# Altium integrated library Diodes - TVS.IntLib: 5379 symbols (part 102 of 122)
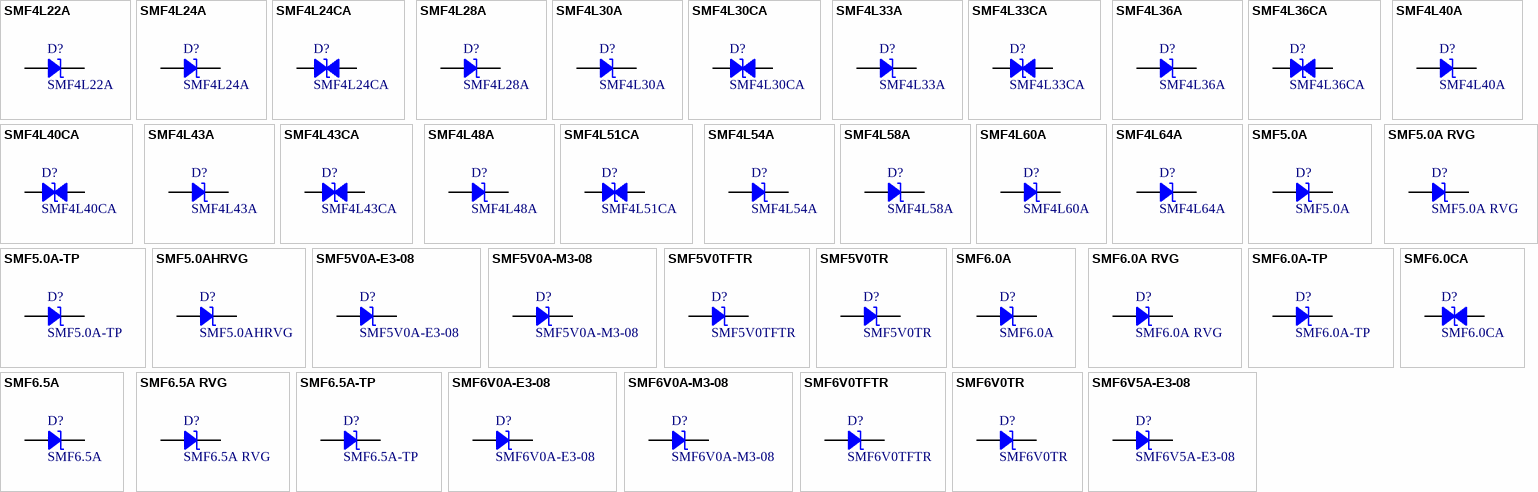
[diagram p235: symbols SMF4L22A to SMF6V5A-E3-08]

## SMF4L24A
designator D?
TVS DIODE 24V 38.9V SOD123FL; Manufacturer: Littelfuse Inc.; Current - Peak Pulse (10/1000µs): 10.3A; Power Line Protection: No; Power - Peak Pulse: 400W; Type: Zener; Unidirectional Channels: 1; Voltage - Breakdown (Min): 26.7V; Part Number: SMF4L24A; Applications: General Purpose; ComponentLink1Description: Datasheet; ComponentLink1URL: https://www.littelfuse.com/~/media/electronics/datasheets/tvs_diodes/littelfuse_tvs_diode_smf4l_datasheet.pdf.pdf; ComponentLink2Description: DigiKey Link; ComponentLink2URL: http://digikey.com/product-detail/en/littelfuse-inc/SMF4L24A/F7481CT-ND/6049738; LastUpdated: 9/2/2020 1:28:37 AM; Lifecycle Status: Active; Minimum Order: 1; Mounting Type: Surface Mount; Operating Temperature: -55°C ~ 150°C (TJ); Package / Case: SOD-123F; Packaging: TapeAndReel; PartId: 10160; Part Status: Active; Price: 0.12; Series: SMF4L; Supplier 1: DigiKey; Supplier Part Number 1: F7481CT-ND; Supplier Device Package: SOD-123FL; Voltage - Clamping (Max) @ Ipp: 38.9V; Voltage - Reverse Standoff (Typ): 24V
footprint SOD123F
pins: 1, 2

## SMF4L24CA
designator D?
TVS DIODE SMF4L 24V BI 400W; Manufacturer: Littelfuse Inc.; Bidirectional Channels: 1; Current - Peak Pulse (10/1000µs): 10.3A; Power Line Protection: No; Type: Zener; Voltage - Breakdown (Min): 26.7V; Voltage - Clamping (Max) @ Ipp: 38.9V; Part Number: SMF4L24CA; Applications: General Purpose; ComponentLink1Description: Datasheet; ComponentLink1URL: https://www.littelfuse.com/~/media/electronics/datasheets/tvs_diodes/littelfuse_tvs_diode_smf4l_datasheet.pdf.pdf; ComponentLink2Description: DigiKey Link; ComponentLink2URL: http://digikey.com/product-detail/en/littelfuse-inc/SMF4L24CA/18-SMF4L24CACT-ND/10710293; LastUpdated: 9/2/2020 1:28:38 AM; Lifecycle Status: Active; Minimum Order: 1; Mounting Type: Surface Mount; Operating Temperature: -55°C ~ 150°C (TJ); Package / Case: SOD-123F; Packaging: Unknown; PartId: 10239; Part Status: Active; Power - Peak Pulse: 400W; Price: 0.12; Series: SMF4L; Supplier 1: DigiKey; Supplier Part Number 1: 18-SMF4L24CACT-ND; Supplier Device Package: SOD-123FL; Voltage - Reverse Standoff (Typ): 24V
footprint SOD123F
pins: 1, 2

## SMF4L28A
designator D?
TVS DIODE 28V 45.4V SOD123FL; Manufacturer: Littelfuse Inc.; Current - Peak Pulse (10/1000µs): 8.8A; Power Line Protection: No; Power - Peak Pulse: 400W; Type: Zener; Unidirectional Channels: 1; Voltage - Breakdown (Min): 31.1V; Part Number: SMF4L28A; Applications: General Purpose; ComponentLink1Description: Datasheet; ComponentLink1URL: https://www.littelfuse.com/~/media/electronics/datasheets/tvs_diodes/littelfuse_tvs_diode_smf4l_datasheet.pdf.pdf; ComponentLink2Description: DigiKey Link; ComponentLink2URL: http://digikey.com/product-detail/en/littelfuse-inc/SMF4L28A/F7483CT-ND/6049740; LastUpdated: 9/2/2020 1:28:37 AM; Lifecycle Status: Active; Minimum Order: 1; Mounting Type: Surface Mount; Operating Temperature: -55°C ~ 150°C (TJ); Package / Case: SOD-123F; Packaging: TapeAndReel; PartId: 10154; Part Status: Active; Price: 0.12; Series: SMF4L; Supplier 1: DigiKey; Supplier Part Number 1: F7483CT-ND; Supplier Device Package: SOD-123FL; Voltage - Clamping (Max) @ Ipp: 45.4V; Voltage - Reverse Standoff (Typ): 28V
footprint SOD123F
pins: 1, 2

## SMF4L30A
designator D?
TVS DIODE 30V 48.4V SOD123FL; Manufacturer: Littelfuse Inc.; Current - Peak Pulse (10/1000µs): 8.3A; Power Line Protection: No; Power - Peak Pulse: 400W; Type: Zener; Unidirectional Channels: 1; Voltage - Breakdown (Min): 33.3V; Part Number: SMF4L30A; Applications: General Purpose; ComponentLink1Description: Datasheet; ComponentLink1URL: https://www.littelfuse.com/~/media/electronics/datasheets/tvs_diodes/littelfuse_tvs_diode_smf4l_datasheet.pdf.pdf; ComponentLink2Description: DigiKey Link; ComponentLink2URL: http://digikey.com/product-detail/en/littelfuse-inc/SMF4L30A/F7469CT-ND/6049726; LastUpdated: 9/2/2020 1:28:37 AM; Lifecycle Status: Active; Minimum Order: 1; Mounting Type: Surface Mount; Operating Temperature: -55°C ~ 150°C (TJ); Package / Case: SOD-123F; Packaging: TapeAndReel; PartId: 10212; Part Status: Active; Price: 0.12; Series: SMF4L; Supplier 1: DigiKey; Supplier Part Number 1: F7469CT-ND; Supplier Device Package: SOD-123FL; Voltage - Clamping (Max) @ Ipp: 48.4V; Voltage - Reverse Standoff (Typ): 30V
footprint SOD123F
pins: 1, 2

## SMF4L30CA
designator D?
TVS DIODE SMF4L 30V BI 400W; Manufacturer: Littelfuse Inc.; Bidirectional Channels: 1; Current - Peak Pulse (10/1000µs): 8.3A; Power Line Protection: No; Type: Zener; Voltage - Breakdown (Min): 33.3V; Voltage - Clamping (Max) @ Ipp: 48.4V; Part Number: SMF4L30CA; Applications: General Purpose; ComponentLink1Description: Datasheet; ComponentLink1URL: https://www.littelfuse.com/~/media/electronics/datasheets/tvs_diodes/littelfuse_tvs_diode_smf4l_datasheet.pdf.pdf; ComponentLink2Description: DigiKey Link; ComponentLink2URL: http://digikey.com/product-detail/en/littelfuse-inc/SMF4L30CA/18-SMF4L30CACT-ND/10710307; LastUpdated: 9/2/2020 1:28:38 AM; Lifecycle Status: Active; Minimum Order: 1; Mounting Type: Surface Mount; Operating Temperature: -55°C ~ 150°C (TJ); Package / Case: SOD-123F; Packaging: Unknown; PartId: 10234; Part Status: Active; Power - Peak Pulse: 400W; Price: 0.12; Series: SMF4L; Supplier 1: DigiKey; Supplier Part Number 1: 18-SMF4L30CACT-ND; Supplier Device Package: SOD-123FL; Voltage - Reverse Standoff (Typ): 30V
footprint SOD123F
pins: 1, 2

## SMF4L33A
designator D?
TVS DIODE 33V 53.3V SOD123FL; Manufacturer: Littelfuse Inc.; Current - Peak Pulse (10/1000µs): 7.5A; Power Line Protection: No; Power - Peak Pulse: 400W; Type: Zener; Unidirectional Channels: 1; Voltage - Breakdown (Min): 36.7V; Part Number: SMF4L33A; Applications: General Purpose; ComponentLink1Description: Datasheet; ComponentLink1URL: https://www.littelfuse.com/~/media/electronics/datasheets/tvs_diodes/littelfuse_tvs_diode_smf4l_datasheet.pdf.pdf; ComponentLink2Description: DigiKey Link; ComponentLink2URL: http://digikey.com/product-detail/en/littelfuse-inc/SMF4L33A/F7484CT-ND/6049741; LastUpdated: 9/2/2020 1:28:37 AM; Lifecycle Status: Active; Minimum Order: 1; Mounting Type: Surface Mount; Operating Temperature: -55°C ~ 150°C (TJ); Package / Case: SOD-123F; Packaging: TapeAndReel; PartId: 10153; Part Status: Active; Price: 0.12; Series: SMF4L; Supplier 1: DigiKey; Supplier Part Number 1: F7484CT-ND; Supplier Device Package: SOD-123FL; Voltage - Clamping (Max) @ Ipp: 53.3V; Voltage - Reverse Standoff (Typ): 33V
footprint SOD123F
pins: 1, 2

## SMF4L33CA
designator D?
TVS DIODE SMF4L 33V BI 400W; Manufacturer: Littelfuse Inc.; Bidirectional Channels: 1; Current - Peak Pulse (10/1000µs): 7.5A; Power Line Protection: No; Type: Zener; Voltage - Breakdown (Min): 36.7V; Voltage - Clamping (Max) @ Ipp: 53.3V; Part Number: SMF4L33CA; Applications: General Purpose; ComponentLink1Description: Datasheet; ComponentLink1URL: https://www.littelfuse.com/~/media/electronics/datasheets/tvs_diodes/littelfuse_tvs_diode_smf4l_datasheet.pdf.pdf; ComponentLink2Description: DigiKey Link; ComponentLink2URL: http://digikey.com/product-detail/en/littelfuse-inc/SMF4L33CA/18-SMF4L33CACT-ND/10710290; LastUpdated: 9/2/2020 1:28:38 AM; Lifecycle Status: Active; Minimum Order: 1; Mounting Type: Surface Mount; Operating Temperature: -55°C ~ 150°C (TJ); Package / Case: SOD-123F; Packaging: Unknown; PartId: 10241; Part Status: Active; Power - Peak Pulse: 400W; Price: 0.12; Series: SMF4L; Supplier 1: DigiKey; Supplier Part Number 1: 18-SMF4L33CACT-ND; Supplier Device Package: SOD-123FL; Voltage - Reverse Standoff (Typ): 33V
footprint SOD123F
pins: 1, 2

## SMF4L36A
designator D?
TVS DIODE 36V 58.1V SOD123FL; Manufacturer: Littelfuse Inc.; Current - Peak Pulse (10/1000µs): 6.9A; Power Line Protection: No; Power - Peak Pulse: 400W; Type: Zener; Unidirectional Channels: 1; Voltage - Breakdown (Min): 40V; Part Number: SMF4L36A; Applications: General Purpose; ComponentLink1Description: Datasheet; ComponentLink1URL: https://www.littelfuse.com/~/media/electronics/datasheets/tvs_diodes/littelfuse_tvs_diode_smf4l_datasheet.pdf.pdf; ComponentLink2Description: DigiKey Link; ComponentLink2URL: http://digikey.com/product-detail/en/littelfuse-inc/SMF4L36A/F7485CT-ND/6049742; LastUpdated: 9/2/2020 1:28:37 AM; Lifecycle Status: Active; Minimum Order: 1; Mounting Type: Surface Mount; Operating Temperature: -55°C ~ 150°C (TJ); Package / Case: SOD-123F; Packaging: TapeAndReel; PartId: 10162; Part Status: Active; Price: 0.12; Series: SMF4L; Supplier 1: DigiKey; Supplier Part Number 1: F7485CT-ND; Supplier Device Package: SOD-123FL; Voltage - Clamping (Max) @ Ipp: 58.1V; Voltage - Reverse Standoff (Typ): 36V
footprint SOD123F
pins: 1, 2

## SMF4L36CA
designator D?
TVS DIODE SMF4L 36V BI 400W; Manufacturer: Littelfuse Inc.; Bidirectional Channels: 1; Current - Peak Pulse (10/1000µs): 6.9A; Power Line Protection: No; Type: SOD-123F; Voltage - Breakdown (Min): 40V; Voltage - Clamping (Max) @ Ipp: 58.1V; Part Number: SMF4L36CA; Applications: General Purpose; ComponentLink1Description: Datasheet; ComponentLink1URL: https://www.littelfuse.com/~/media/electronics/datasheets/tvs_diodes/littelfuse_tvs_diode_smf4l_datasheet.pdf.pdf; ComponentLink2Description: DigiKey Link; ComponentLink2URL: http://digikey.com/product-detail/en/littelfuse-inc/SMF4L36CA/18-SMF4L36CACT-ND/10710300; LastUpdated: 9/2/2020 1:28:38 AM; Lifecycle Status: Active; Minimum Order: 1; Mounting Type: Surface Mount; Operating Temperature: -55°C ~ 150°C (TJ); Package / Case: SOD-123F; Packaging: Unknown; PartId: 10238; Part Status: Active; Power - Peak Pulse: 400W; Price: 0.12; Series: SMF4L; Supplier 1: DigiKey; Supplier Part Number 1: 18-SMF4L36CACT-ND; Supplier Device Package: SOD-123FL; Voltage - Reverse Standoff (Typ): 36V
footprint SOD123F
pins: 1, 2

## SMF4L40A
designator D?
TVS DIODE 40V 64.5V SOD123FL; Manufacturer: Littelfuse Inc.; Current - Peak Pulse (10/1000µs): 6.2A; Power Line Protection: No; Power - Peak Pulse: 400W; Type: Zener; Unidirectional Channels: 1; Voltage - Breakdown (Min): 44.4V; Part Number: SMF4L40A; Applications: General Purpose; ComponentLink1Description: Datasheet; ComponentLink1URL: https://www.littelfuse.com/~/media/electronics/datasheets/tvs_diodes/littelfuse_tvs_diode_smf4l_datasheet.pdf.pdf; ComponentLink2Description: DigiKey Link; ComponentLink2URL: http://digikey.com/product-detail/en/littelfuse-inc/SMF4L40A/F7486CT-ND/6049743; LastUpdated: 9/2/2020 1:28:37 AM; Lifecycle Status: Active; Minimum Order: 1; Mounting Type: Surface Mount; Operating Temperature: -55°C ~ 150°C (TJ); Package / Case: SOD-123F; Packaging: TapeAndReel; PartId: 10215; Part Status: Active; Price: 0.12; Series: SMF4L; Supplier 1: DigiKey; Supplier Part Number 1: F7486CT-ND; Supplier Device Package: SOD-123FL; Voltage - Clamping (Max) @ Ipp: 64.5V; Voltage - Reverse Standoff (Typ): 40V
footprint SOD123F
pins: 1, 2

## SMF4L40CA
designator D?
TVS DIODE SMF4L 40V BI 400W; Manufacturer: Littelfuse Inc.; Bidirectional Channels: 1; Current - Peak Pulse (10/1000µs): 6.2A; Power Line Protection: No; Type: Zener; Voltage - Breakdown (Min): 44.4V; Voltage - Clamping (Max) @ Ipp: 64.5V; Part Number: SMF4L40CA; Applications: General Purpose; ComponentLink1Description: Datasheet; ComponentLink1URL: https://www.littelfuse.com/~/media/electronics/datasheets/tvs_diodes/littelfuse_tvs_diode_smf4l_datasheet.pdf.pdf; ComponentLink2Description: DigiKey Link; ComponentLink2URL: http://digikey.com/product-detail/en/littelfuse-inc/SMF4L40CA/18-SMF4L40CACT-ND/10710302; LastUpdated: 9/2/2020 1:28:38 AM; Lifecycle Status: Active; Minimum Order: 1; Mounting Type: Surface Mount; Operating Temperature: -55°C ~ 150°C (TJ); Package / Case: SOD-123F; Packaging: Unknown; PartId: 10236; Part Status: Active; Power - Peak Pulse: 400W; Price: 0.12; Series: SMF4L; Supplier 1: DigiKey; Supplier Part Number 1: 18-SMF4L40CACT-ND; Supplier Device Package: SOD-123FL; Voltage - Reverse Standoff (Typ): 40V
footprint SOD123F
pins: 1, 2

## SMF4L43A
designator D?
TVS DIODE 43V 69.4V SOD123FL; Manufacturer: Littelfuse Inc.; Current - Peak Pulse (10/1000µs): 5.8A; Power Line Protection: No; Power - Peak Pulse: 400W; Type: Zener; Unidirectional Channels: 1; Voltage - Breakdown (Min): 47.8V; Part Number: SMF4L43A; Applications: General Purpose; ComponentLink1Description: Datasheet; ComponentLink1URL: https://www.littelfuse.com/~/media/electronics/datasheets/tvs_diodes/littelfuse_tvs_diode_smf4l_datasheet.pdf.pdf; ComponentLink2Description: DigiKey Link; ComponentLink2URL: http://digikey.com/product-detail/en/littelfuse-inc/SMF4L43A/F7487CT-ND/6049744; LastUpdated: 9/2/2020 1:28:35 AM; Lifecycle Status: Active; Minimum Order: 1; Mounting Type: Surface Mount; Operating Temperature: -55°C ~ 150°C (TJ); Package / Case: SOD-123F; Packaging: TapeAndReel; PartId: 10035; Part Status: Active; Price: 0.10; Series: SMF4L; Supplier 1: DigiKey; Supplier Part Number 1: F7487CT-ND; Supplier Device Package: SOD-123FL; Voltage - Clamping (Max) @ Ipp: 69.4V; Voltage - Reverse Standoff (Typ): 43V
footprint SOD123F
pins: 1, 2

## SMF4L43CA
designator D?
TVS DIODE SMF4L 43V BI 400W; Manufacturer: Littelfuse Inc.; Bidirectional Channels: 1; Current - Peak Pulse (10/1000µs): 5.8A; Power Line Protection: No; Type: Zener; Voltage - Breakdown (Min): 47.8V; Voltage - Clamping (Max) @ Ipp: 69.4V; Part Number: SMF4L43CA; Applications: General Purpose; ComponentLink1Description: Datasheet; ComponentLink1URL: https://www.littelfuse.com/~/media/electronics/datasheets/tvs_diodes/littelfuse_tvs_diode_smf4l_datasheet.pdf.pdf; ComponentLink2Description: DigiKey Link; ComponentLink2URL: http://digikey.com/product-detail/en/littelfuse-inc/SMF4L43CA/18-SMF4L43CACT-ND/10710308; LastUpdated: 9/2/2020 1:28:38 AM; Lifecycle Status: Active; Minimum Order: 1; Mounting Type: Surface Mount; Operating Temperature: -55°C ~ 150°C (TJ); Package / Case: SOD-123F; Packaging: Unknown; PartId: 10233; Part Status: Active; Power - Peak Pulse: 400W; Price: 0.12; Series: SMF4L; Supplier 1: DigiKey; Supplier Part Number 1: 18-SMF4L43CACT-ND; Supplier Device Package: SOD-123FL; Voltage - Reverse Standoff (Typ): 43V
footprint SOD123F
pins: 1, 2

## SMF4L48A
designator D?
TVS DIODE 48V 77.4V SOD123FL; Manufacturer: Littelfuse Inc.; Current - Peak Pulse (10/1000µs): 5.2A; Power Line Protection: No; Power - Peak Pulse: 400W; Type: Zener; Unidirectional Channels: 1; Voltage - Breakdown (Min): 53.3V; Part Number: SMF4L48A; Applications: General Purpose; ComponentLink1Description: Datasheet; ComponentLink1URL: https://www.littelfuse.com/~/media/electronics/datasheets/tvs_diodes/littelfuse_tvs_diode_smf4l_datasheet.pdf.pdf; ComponentLink2Description: DigiKey Link; ComponentLink2URL: http://digikey.com/product-detail/en/littelfuse-inc/SMF4L48A/F7489CT-ND/6049746; LastUpdated: 9/2/2020 1:28:37 AM; Lifecycle Status: Active; Minimum Order: 1; Mounting Type: Surface Mount; Operating Temperature: -55°C ~ 150°C (TJ); Package / Case: SOD-123F; Packaging: TapeAndReel; PartId: 10157; Part Status: Active; Price: 0.12; Series: SMF4L; Supplier 1: DigiKey; Supplier Part Number 1: F7489CT-ND; Supplier Device Package: SOD-123FL; Voltage - Clamping (Max) @ Ipp: 77.4V; Voltage - Reverse Standoff (Typ): 48V
footprint SOD123F
pins: 1, 2

## SMF4L51CA
designator D?
TVS DIODE SMF4L 51V BI 400W; Manufacturer: Littelfuse Inc.; Bidirectional Channels: 1; Current - Peak Pulse (10/1000µs): 4.9A; Power Line Protection: No; Type: Zener; Voltage - Breakdown (Min): 56.7V; Voltage - Clamping (Max) @ Ipp: 82.4V; Part Number: SMF4L51CA; Applications: General Purpose; ComponentLink1Description: Datasheet; ComponentLink1URL: https://www.littelfuse.com/~/media/electronics/datasheets/tvs_diodes/littelfuse_tvs_diode_smf4l_datasheet.pdf.pdf; ComponentLink2Description: DigiKey Link; ComponentLink2URL: http://digikey.com/product-detail/en/littelfuse-inc/SMF4L51CA/18-SMF4L51CACT-ND/10710301; LastUpdated: 9/2/2020 1:28:38 AM; Lifecycle Status: Active; Minimum Order: 1; Mounting Type: Surface Mount; Operating Temperature: -55°C ~ 150°C (TJ); Package / Case: SOD-123F; Packaging: Unknown; PartId: 10237; Part Status: Active; Power - Peak Pulse: 400W; Price: 0.12; Series: SMF4L; Supplier 1: DigiKey; Supplier Part Number 1: 18-SMF4L51CACT-ND; Supplier Device Package: SOD-123FL; Voltage - Reverse Standoff (Typ): 51V
footprint SOD123F
pins: 1, 2

## SMF4L54A
designator D?
TVS DIODE 54V 87.1V SOD123FL; Manufacturer: Littelfuse Inc.; Current - Peak Pulse (10/1000µs): 4.6A; Power Line Protection: No; Power - Peak Pulse: 400W; Type: Zener; Unidirectional Channels: 1; Voltage - Breakdown (Min): 60V; Part Number: SMF4L54A; Applications: General Purpose; ComponentLink1Description: Datasheet; ComponentLink1URL: https://www.littelfuse.com/~/media/electronics/datasheets/tvs_diodes/littelfuse_tvs_diode_smf4l_datasheet.pdf.pdf; ComponentLink2Description: DigiKey Link; ComponentLink2URL: http://digikey.com/product-detail/en/littelfuse-inc/SMF4L54A/F7491CT-ND/6049748; LastUpdated: 9/2/2020 1:28:37 AM; Lifecycle Status: Active; Minimum Order: 1; Mounting Type: Surface Mount; Operating Temperature: -55°C ~ 150°C (TJ); Package / Case: SOD-123F; Packaging: TapeAndReel; PartId: 10152; Part Status: Active; Price: 0.12; Series: SMF4L; Supplier 1: DigiKey; Supplier Part Number 1: F7491CT-ND; Supplier Device Package: SOD-123FL; Voltage - Clamping (Max) @ Ipp: 87.1V; Voltage - Reverse Standoff (Typ): 54V
footprint SOD123F
pins: 1, 2

## SMF4L58A
designator D?
TVS DIODE 58V 93.6V SOD123FL; Manufacturer: Littelfuse Inc.; Current - Peak Pulse (10/1000µs): 4.3A; Power Line Protection: No; Power - Peak Pulse: 400W; Type: Zener; Unidirectional Channels: 1; Voltage - Breakdown (Min): 64.4V; Part Number: SMF4L58A; Applications: General Purpose; ComponentLink1Description: Datasheet; ComponentLink1URL: https://www.littelfuse.com/~/media/electronics/datasheets/tvs_diodes/littelfuse_tvs_diode_smf4l_datasheet.pdf.pdf; ComponentLink2Description: DigiKey Link; ComponentLink2URL: http://digikey.com/product-detail/en/littelfuse-inc/SMF4L58A/F7492CT-ND/6049749; LastUpdated: 9/2/2020 1:28:37 AM; Lifecycle Status: Active; Minimum Order: 1; Mounting Type: Surface Mount; Operating Temperature: -55°C ~ 150°C (TJ); Package / Case: SOD-123F; Packaging: TapeAndReel; PartId: 10164; Part Status: Active; Price: 0.12; Series: SMF4L; Supplier 1: DigiKey; Supplier Part Number 1: F7492CT-ND; Supplier Device Package: SOD-123FL; Voltage - Clamping (Max) @ Ipp: 93.6V; Voltage - Reverse Standoff (Typ): 58V
footprint SOD123F
pins: 1, 2

## SMF4L60A
designator D?
TVS DIODE 60V 96.8V SOD123FL; Manufacturer: Littelfuse Inc.; Current - Peak Pulse (10/1000µs): 4.1A; Power Line Protection: No; Power - Peak Pulse: 400W; Type: Zener; Unidirectional Channels: 1; Voltage - Breakdown (Min): 66.7V; Part Number: SMF4L60A; Applications: General Purpose; ComponentLink1Description: Datasheet; ComponentLink1URL: https://www.littelfuse.com/~/media/electronics/datasheets/tvs_diodes/littelfuse_tvs_diode_smf4l_datasheet.pdf.pdf; ComponentLink2Description: DigiKey Link; ComponentLink2URL: http://digikey.com/product-detail/en/littelfuse-inc/SMF4L60A/F7493CT-ND/6049750; LastUpdated: 9/2/2020 1:28:37 AM; Lifecycle Status: Active; Minimum Order: 1; Mounting Type: Surface Mount; Operating Temperature: -55°C ~ 150°C (TJ); Package / Case: SOD-123F; Packaging: TapeAndReel; PartId: 10151; Part Status: Active; Price: 0.12; Series: SMF4L; Supplier 1: DigiKey; Supplier Part Number 1: F7493CT-ND; Supplier Device Package: SOD-123FL; Voltage - Clamping (Max) @ Ipp: 96.8V; Voltage - Reverse Standoff (Typ): 60V
footprint SOD123F
pins: 1, 2

## SMF4L64A
designator D?
TVS DIODE 64V 103V SOD123FL; Manufacturer: Littelfuse Inc.; Current - Peak Pulse (10/1000µs): 3.9A; Power Line Protection: No; Power - Peak Pulse: 400W; Type: Zener; Unidirectional Channels: 1; Voltage - Breakdown (Min): 71.1V; Part Number: SMF4L64A; Applications: General Purpose; ComponentLink1Description: Datasheet; ComponentLink1URL: https://www.littelfuse.com/~/media/electronics/datasheets/tvs_diodes/littelfuse_tvs_diode_smf4l_datasheet.pdf.pdf; ComponentLink2Description: DigiKey Link; ComponentLink2URL: http://digikey.com/product-detail/en/littelfuse-inc/SMF4L64A/F7494CT-ND/6049751; LastUpdated: 9/2/2020 1:28:37 AM; Lifecycle Status: Active; Minimum Order: 1; Mounting Type: Surface Mount; Operating Temperature: -55°C ~ 150°C (TJ); Package / Case: SOD-123F; Packaging: TapeAndReel; PartId: 10156; Part Status: Active; Price: 0.12; Series: SMF4L; Supplier 1: DigiKey; Supplier Part Number 1: F7494CT-ND; Supplier Device Package: SOD-123FL; Voltage - Clamping (Max) @ Ipp: 103V; Voltage - Reverse Standoff (Typ): 64V
footprint SOD123F
pins: 1, 2

## SMF5.0A
designator D?
TVS DIODE 5V 9.2V SOD123F; Manufacturer: Littelfuse Inc.; Current - Peak Pulse (10/1000µs): 21.7A; Power Line Protection: No; Power - Peak Pulse: 200W; Type: Zener; Unidirectional Channels: 1; Voltage - Breakdown (Min): 6.4V; Part Number: SMF5.0A; Applications: General Purpose; ComponentLink1Description: Datasheet; ComponentLink1URL: https://www.littelfuse.com/~/media/electronics/datasheets/tvs_diodes/littelfuse_tvs_diode_smf_datasheet.pdf.pdf; ComponentLink2Description: DigiKey Link; ComponentLink2URL: http://digikey.com/product-detail/en/littelfuse-inc/SMF5.0A/F5748CT-ND/3543180; LastUpdated: 9/2/2020 1:28:36 AM; Lifecycle Status: Active; Minimum Order: 1; Mounting Type: Surface Mount; Operating Temperature: -55°C ~ 150°C (TJ); Package / Case: SOD-123F; Packaging: TapeAndReel; PartId: 10096; Part Status: Active; Price: 0.10; Series: SMF; Supplier 1: DigiKey; Supplier Part Number 1: F5748CT-ND; Supplier Device Package: SOD-123F; Voltage - Clamping (Max) @ Ipp: 9.2V; Voltage - Reverse Standoff (Typ): 5V
footprint SOD123F
pins: 1, 2

## SMF5.0A RVG
designator D?
DIODE, TVS, UNIDIRECTIONAL; Manufacturer: Taiwan Semiconductor Corporation; Current - Peak Pulse (10/1000µs): 21.7A; Power Line Protection: No; Power - Peak Pulse: 200W; Type: Zener; Unidirectional Channels: 1; Voltage - Breakdown (Min): 6.4V; Voltage - Clamping (Max) @ Ipp: 9.2V; Voltage - Reverse Standoff (Typ): 5V; Part Number: SMF5.0A RVG; Applications: General Purpose; ComponentLink1Description: Datasheet; ComponentLink1URL: https://www.taiwansemi.com/products/datasheet/SMF5.0A%20SERIES_B1709.pdf; ComponentLink2Description: DigiKey Link; ComponentLink2URL: http://digikey.com/product-detail/en/taiwan-semiconductor-corporation/SMF5.0A-RVG/SMF5.0ARVGCT-ND/8600439; LastUpdated: 9/2/2020 1:28:40 AM; Lifecycle Status: Active; Minimum Order: 1; Mounting Type: Surface Mount; Operating Temperature: -55°C ~ 175°C (TJ); Package / Case: SOD-123W; Packaging: TapeAndReel; PartId: 10313; Part Status: Active; Price: 0.08; Series: -; Supplier 1: DigiKey; Supplier Part Number 1: SMF5.0ARVGCT-ND; Supplier Device Package: SOD-123W
footprint SOD-123W
pins: 1, 2

## SMF5.0A-TP
designator D?
TVS DIODE 5V 9.2V SOD123FL; Manufacturer: Micro Commercial Co; Current - Peak Pulse (10/1000µs): 21.7A; Power Line Protection: No; Power - Peak Pulse: 200W; Type: Zener; Unidirectional Channels: 1; Voltage - Breakdown (Min): 6.4V; Part Number: SMF5.0A-TP; Applications: General Purpose; ComponentLink1Description: Datasheet; ComponentLink1URL: https://www.mccsemi.com/pdf/Products/SMF5.0-170(SOD-123FL)-V2.pdf; ComponentLink2Description: DigiKey Link; ComponentLink2URL: http://digikey.com/product-detail/en/micro-commercial-co/SMF5.0A-TP/SMF5.0A-TPMSCT-ND/2268367; LastUpdated: 9/2/2020 1:28:36 AM; Lifecycle Status: Active; Minimum Order: 1; Mounting Type: Surface Mount; Operating Temperature: -65°C ~ 175°C (TA); Package / Case: SOD-123F; Packaging: TapeAndReel; PartId: 10103; Part Status: Active; Price: 0.09; Series: -; Supplier 1: DigiKey; Supplier Part Number 1: SMF5.0A-TPMSCT-ND; Supplier Device Package: SOD-123FL; Voltage - Clamping (Max) @ Ipp: 9.2V; Voltage - Reverse Standoff (Typ): 5V
footprint SOD123F
pins: 1, 2

## SMF5.0AHRVG
designator D?
DIODE, TVS, UNIDIRECTIONAL; Manufacturer: Taiwan Semiconductor Corporation; Current - Peak Pulse (10/1000µs): 21.7A; Power Line Protection: No; Power - Peak Pulse: 200W; Type: Zener; Unidirectional Channels: 1; Voltage - Breakdown (Min): 6.4V; Voltage - Clamping (Max) @ Ipp: 9.2V; Voltage - Reverse Standoff (Typ): 5V; Part Number: SMF5.0AHRVG; Applications: Automotive; ComponentLink1Description: Datasheet; ComponentLink1URL: https://www.taiwansemi.com/products/datasheet/SMF5.0A%20SERIES_B1709.pdf; ComponentLink2Description: DigiKey Link; ComponentLink2URL: http://digikey.com/product-detail/en/taiwan-semiconductor-corporation/SMF5.0AHRVG/SMF5.0AHRVGCT-ND/8600440; LastUpdated: 9/2/2020 1:28:40 AM; Lifecycle Status: Active; Minimum Order: 1; Mounting Type: Surface Mount; Operating Temperature: -55°C ~ 175°C (TJ); Package / Case: SOD-123W; Packaging: TapeAndReel; PartId: 10294; Part Status: Active; Price: 0.09; Series: Automotive, AEC-Q101; Supplier 1: DigiKey; Supplier Part Number 1: SMF5.0AHRVGCT-ND; Supplier Device Package: SOD-123W
footprint SOD-123W
pins: 1, 2

## SMF5V0A-E3-08
designator D?
TVS DIODE 5V 9.2V SMF; Manufacturer: Vishay Semiconductor Diodes Division; Capacitance @ Frequency: 1120pF @ 1MHz; Current - Peak Pulse (10/1000µs): 21.7A; Power Line Protection: No; Power - Peak Pulse: 200W; Type: Zener; Unidirectional Channels: 1; Voltage - Breakdown (Min): 6.4V; Part Number: SMF5V0A-E3-08; Applications: General Purpose; ComponentLink1Description: Datasheet; ComponentLink1URL: http://www.vishay.com/docs/85881/smf5v0atosmf58a.pdf; ComponentLink2Description: DigiKey Link; ComponentLink2URL: http://digikey.com/product-detail/en/vishay-semiconductor-diodes-division/SMF5V0A-E3-08/SMF5V0A-E3-08CT-ND/1680637; LastUpdated: 9/2/2020 1:27:45 AM; Lifecycle Status: Active; Minimum Order: 1; Mounting Type: Surface Mount; Operating Temperature: -65°C ~ 175°C (TJ); Package / Case: DO-219AB; Packaging: TapeAndReel; PartId: 5504; Part Status: Active; Price: 0.10; Series: -; Supplier 1: DigiKey; Supplier Part Number 1: SMF5V0A-E3-08CT-ND; Supplier Device Package: SMF; Voltage - Clamping (Max) @ Ipp: 9.2V; Voltage - Reverse Standoff (Typ): 5V
footprint SMF DO-219AB
pins: 1, 2

## SMF5V0A-M3-08
designator D?
TVS DIODE 5V 9.2V DO219AB; Manufacturer: Vishay Semiconductor Diodes Division; Capacitance @ Frequency: 1120pF @ 1MHz; Current - Peak Pulse (10/1000µs): 21.7A; Power Line Protection: No; Power - Peak Pulse: 200W; Type: Zener; Unidirectional Channels: 1; Voltage - Breakdown (Min): 6.4V; Part Number: SMF5V0A-M3-08; Applications: General Purpose; ComponentLink1Description: Datasheet; ComponentLink1URL: http://www.vishay.com/docs/85881/smf5v0atosmf58a.pdf; ComponentLink2Description: DigiKey Link; ComponentLink2URL: http://digikey.com/product-detail/en/vishay-semiconductor-diodes-division/SMF5V0A-M3-08/SMF5V0A-M3-08GICT-ND/8565232; LastUpdated: 9/2/2020 1:27:45 AM; Lifecycle Status: Active; Minimum Order: 1; Mounting Type: Surface Mount; Operating Temperature: -65°C ~ 175°C (TJ); Package / Case: DO-219AB; Packaging: TapeAndReel; PartId: 5524; Part Status: Active; Price: 0.10; Series: -; Supplier 1: DigiKey; Supplier Part Number 1: SMF5V0A-M3-08GICT-ND; Supplier Device Package: SMF (DO-219AB); Voltage - Clamping (Max) @ Ipp: 9.2V; Voltage - Reverse Standoff (Typ): 5V
footprint SMF DO-219AB
pins: 1, 2

## SMF5V0TFTR
designator D?
SMF5V0TF IS A TRANSIENT VOLTAGE; Manufacturer: Rohm Semiconductor; Current - Peak Pulse (10/1000µs): 21.7A; Power Line Protection: No; Power - Peak Pulse: 200W; Type: Zener; Unidirectional Channels: 1; Voltage - Breakdown (Min): 6.4V; Voltage - Clamping (Max) @ Ipp: 9.2V; Voltage - Reverse Standoff (Typ): 5V; Part Number: SMF5V0TFTR; Applications: Automotive; ComponentLink1Description: Datasheet; ComponentLink1URL: https://www.rohm.com/datasheet/SMF5V0TF/smf5v0tftr-e; ComponentLink2Description: DigiKey Link; ComponentLink2URL: http://digikey.com/product-detail/en/rohm-semiconductor/SMF5V0TFTR/SMF5V0TFCT-ND/9748293; LastUpdated: 9/2/2020 1:28:36 AM; Lifecycle Status: Active; Minimum Order: 1; Mounting Type: Surface Mount; Operating Temperature: 150°C (TJ); Package / Case: SOD-123F; Packaging: TapeAndReel; PartId: 10125; Part Status: Active; Price: 0.11; Series: Automotive, AEC-Q101; Supplier 1: DigiKey; Supplier Part Number 1: SMF5V0TFCT-ND; Supplier Device Package: PMDU
footprint SOD123F
pins: 1, 2

## SMF5V0TR
designator D?
TRANSIENT VOLTAGE SUPPRESSOR - S; Manufacturer: Rohm Semiconductor; Current - Peak Pulse (10/1000µs): 21.7A; Power Line Protection: No; Power - Peak Pulse: 200W; Type: Zener; Unidirectional Channels: 1; Voltage - Breakdown (Min): 6.4V; Voltage - Clamping (Max) @ Ipp: 9.2V; Voltage - Reverse Standoff (Typ): 5V (Max); Part Number: SMF5V0TR; Applications: General Purpose; ComponentLink1Description: Datasheet; ComponentLink1URL: https://www.rohm.com/datasheet/SMF7V5/smf7v5tr-e; ComponentLink2Description: DigiKey Link; ComponentLink2URL: http://digikey.com/product-detail/en/rohm-semiconductor/SMF5V0TR/846-SMF5V0CT-ND/10709695; LastUpdated: 9/2/2020 1:28:36 AM; Lifecycle Status: Active; Minimum Order: 1; Mounting Type: Surface Mount; Operating Temperature: 150°C (TJ); Package / Case: SOD-123F; Packaging: Unknown; PartId: 10045; Part Status: Active; Price: 0.06; Series: -; Supplier 1: DigiKey; Supplier Part Number 1: 846-SMF5V0CT-ND; Supplier Device Package: PMDU
footprint SOD123F
pins: 1, 2

## SMF6.0A
designator D?
TVS DIODE 6V 10.3V SOD123F; Manufacturer: Littelfuse Inc.; Current - Peak Pulse (10/1000µs): 19.4A; Power Line Protection: No; Power - Peak Pulse: 200W; Type: Zener; Unidirectional Channels: 1; Voltage - Breakdown (Min): 6.67V; Part Number: SMF6.0A; Applications: General Purpose; ComponentLink1Description: Datasheet; ComponentLink1URL: https://www.littelfuse.com/~/media/electronics/datasheets/tvs_diodes/littelfuse_tvs_diode_smf_datasheet.pdf.pdf; ComponentLink2Description: DigiKey Link; ComponentLink2URL: http://digikey.com/product-detail/en/littelfuse-inc/SMF6.0A/F5749CT-ND/3543181; LastUpdated: 9/2/2020 1:28:37 AM; Lifecycle Status: Active; Minimum Order: 1; Mounting Type: Surface Mount; Operating Temperature: -55°C ~ 150°C (TJ); Package / Case: SOD-123F; Packaging: TapeAndReel; PartId: 10224; Part Status: Active; Price: 0.10; Series: SMF; Supplier 1: DigiKey; Supplier Part Number 1: F5749CT-ND; Supplier Device Package: SOD-123F; Voltage - Clamping (Max) @ Ipp: 10.3V; Voltage - Reverse Standoff (Typ): 6V
footprint SOD123F
pins: 1, 2

## SMF6.0A RVG
designator D?
DIODE, TVS, UNIDIRECTIONAL; Manufacturer: Taiwan Semiconductor Corporation; Current - Peak Pulse (10/1000µs): 19.4A; Power Line Protection: No; Power - Peak Pulse: 200W; Type: Zener; Unidirectional Channels: 1; Voltage - Breakdown (Min): 6.67V; Voltage - Clamping (Max) @ Ipp: 10.3V; Voltage - Reverse Standoff (Typ): 6V; Part Number: SMF6.0A RVG; Applications: General Purpose; ComponentLink1Description: Datasheet; ComponentLink1URL: https://www.taiwansemi.com/products/datasheet/SMF5.0A%20SERIES_B1709.pdf; ComponentLink2Description: DigiKey Link; ComponentLink2URL: http://digikey.com/product-detail/en/taiwan-semiconductor-corporation/SMF6.0A-RVG/SMF6.0ARVGCT-ND/8600441; LastUpdated: 9/2/2020 1:28:40 AM; Lifecycle Status: Active; Minimum Order: 1; Mounting Type: Surface Mount; Operating Temperature: -55°C ~ 175°C (TJ); Package / Case: SOD-123W; Packaging: TapeAndReel; PartId: 10340; Part Status: Active; Price: 0.08; Series: -; Supplier 1: DigiKey; Supplier Part Number 1: SMF6.0ARVGCT-ND; Supplier Device Package: SOD-123W
footprint SOD-123W
pins: 1, 2

## SMF6.0A-TP
designator D?
TVS DIODE 6V 10.3V SOD123FL; Manufacturer: Micro Commercial Co; Current - Peak Pulse (10/1000µs): 19.4A; Power Line Protection: No; Power - Peak Pulse: 200W; Type: Zener; Unidirectional Channels: 1; Voltage - Breakdown (Min): 6.67V; Part Number: SMF6.0A-TP; Applications: General Purpose; ComponentLink1Description: Datasheet; ComponentLink1URL: https://www.mccsemi.com/pdf/Products/SMF5.0-170(SOD-123FL)-V2.pdf; ComponentLink2Description: DigiKey Link; ComponentLink2URL: http://digikey.com/product-detail/en/micro-commercial-co/SMF6.0A-TP/SMF6.0A-TPMSCT-ND/5114028; LastUpdated: 9/2/2020 1:28:36 AM; Lifecycle Status: Active; Minimum Order: 1; Mounting Type: Surface Mount; Operating Temperature: -65°C ~ 175°C (TA); Package / Case: SOD-123F; Packaging: TapeAndReel; PartId: 10074; Part Status: Active; Price: 0.09; Series: -; Supplier 1: DigiKey; Supplier Part Number 1: SMF6.0A-TPMSCT-ND; Supplier Device Package: SOD-123FL; Voltage - Clamping (Max) @ Ipp: 10.3V; Voltage - Reverse Standoff (Typ): 6V
footprint SOD123F
pins: 1, 2

## SMF6.0CA
designator D?
TVS DIODE 200W BI 6V SMD; Manufacturer: Littelfuse Inc.; Bidirectional Channels: 1; Current - Peak Pulse (10/1000µs): 19.4A; Power Line Protection: No; Type: Zener; Voltage - Breakdown (Min): 6.67V; Voltage - Clamping (Max) @ Ipp: 10.3V; Part Number: SMF6.0CA; Applications: General Purpose; ComponentLink1Description: Datasheet; ComponentLink1URL: https://www.littelfuse.com/~/media/electronics/datasheets/tvs_diodes/littelfuse_tvs_diode_smf_datasheet.pdf.pdf; ComponentLink2Description: DigiKey Link; ComponentLink2URL: http://digikey.com/product-detail/en/littelfuse-inc/SMF6.0CA/18-SMF6.0CACT-ND/11206251; LastUpdated: 9/2/2020 1:28:38 AM; Lifecycle Status: Active; Minimum Order: 1; Mounting Type: Surface Mount; Operating Temperature: -65°C ~ 150°C (TJ); Package / Case: SOD-123F; Packaging: Unknown; PartId: 10228; Part Status: Active; Power - Peak Pulse: 200W; Price: 0.12; Series: SMF; Supplier 1: DigiKey; Supplier Part Number 1: 18-SMF6.0CACT-ND; Supplier Device Package: SOD-123FL; Voltage - Reverse Standoff (Typ): 6V
footprint SOD123F
pins: 1, 2

## SMF6.5A
designator D?
TVS DIODE 6.5V 11.2V SOD123F; Manufacturer: Littelfuse Inc.; Current - Peak Pulse (10/1000µs): 17.9A; Power Line Protection: No; Power - Peak Pulse: 200W; Type: Zener; Unidirectional Channels: 1; Voltage - Breakdown (Min): 7.22V; Part Number: SMF6.5A; Applications: General Purpose; ComponentLink1Description: Datasheet; ComponentLink1URL: https://www.littelfuse.com/~/media/electronics/datasheets/tvs_diodes/littelfuse_tvs_diode_smf_datasheet.pdf.pdf; ComponentLink2Description: DigiKey Link; ComponentLink2URL: http://digikey.com/product-detail/en/littelfuse-inc/SMF6.5A/F5750CT-ND/3543182; LastUpdated: 9/2/2020 1:28:37 AM; Lifecycle Status: Active; Minimum Order: 1; Mounting Type: Surface Mount; Operating Temperature: -55°C ~ 150°C (TJ); Package / Case: SOD-123F; Packaging: TapeAndReel; PartId: 10203; Part Status: Active; Price: 0.11; Series: SMF; Supplier 1: DigiKey; Supplier Part Number 1: F5750CT-ND; Supplier Device Package: SOD-123F; Voltage - Clamping (Max) @ Ipp: 11.2V; Voltage - Reverse Standoff (Typ): 6.5V
footprint SOD123F
pins: 1, 2

## SMF6.5A RVG
designator D?
DIODE, TVS, UNIDIRECTIONAL; Manufacturer: Taiwan Semiconductor Corporation; Current - Peak Pulse (10/1000µs): 17.9A; Power Line Protection: No; Power - Peak Pulse: 200W; Type: Zener; Unidirectional Channels: 1; Voltage - Breakdown (Min): 7.22V; Voltage - Clamping (Max) @ Ipp: 11.2V; Voltage - Reverse Standoff (Typ): 6.5V; Part Number: SMF6.5A RVG; Applications: General Purpose; ComponentLink1Description: Datasheet; ComponentLink1URL: https://www.taiwansemi.com/products/datasheet/SMF5.0A%20SERIES_B1709.pdf; ComponentLink2Description: DigiKey Link; ComponentLink2URL: http://digikey.com/product-detail/en/taiwan-semiconductor-corporation/SMF6.5A-RVG/SMF6.5ARVGCT-ND/8600442; LastUpdated: 9/2/2020 1:28:40 AM; Lifecycle Status: Active; Minimum Order: 1; Mounting Type: Surface Mount; Operating Temperature: -55°C ~ 175°C (TJ); Package / Case: SOD-123W; Packaging: TapeAndReel; PartId: 10312; Part Status: Active; Price: 0.08; Series: -; Supplier 1: DigiKey; Supplier Part Number 1: SMF6.5ARVGCT-ND; Supplier Device Package: SOD-123W
footprint SOD-123W
pins: 1, 2

## SMF6.5A-TP
designator D?
TVS DIODE 6.5V 11.2V SOD123FL; Manufacturer: Micro Commercial Co; Current - Peak Pulse (10/1000µs): 17.9A; Power Line Protection: No; Power - Peak Pulse: 200W; Type: Zener; Unidirectional Channels: 1; Voltage - Breakdown (Min): 7.22V; Part Number: SMF6.5A-TP; Applications: General Purpose; ComponentLink1Description: Datasheet; ComponentLink1URL: https://www.mccsemi.com/pdf/Products/SMF5.0-170(SOD-123FL)-F.pdf; ComponentLink2Description: DigiKey Link; ComponentLink2URL: http://digikey.com/product-detail/en/micro-commercial-co/SMF6.5A-TP/SMF6.5A-TPMSCT-ND/5114029; LastUpdated: 9/2/2020 1:28:36 AM; Lifecycle Status: Active; Minimum Order: 1; Mounting Type: Surface Mount; Operating Temperature: -65°C ~ 175°C (TA); Package / Case: SOD-123F; Packaging: TapeAndReel; PartId: 10110; Part Status: Active; Price: 0.09; Series: -; Supplier 1: DigiKey; Supplier Part Number 1: SMF6.5A-TPMSCT-ND; Supplier Device Package: SOD-123FL; Voltage - Clamping (Max) @ Ipp: 11.2V; Voltage - Reverse Standoff (Typ): 6.5V
footprint SOD123F
pins: 1, 2

## SMF6V0A-E3-08
designator D?
TVS DIODE 6V 10.3V SMF; Manufacturer: Vishay Semiconductor Diodes Division; Capacitance @ Frequency: 1063pF @ 1MHz; Current - Peak Pulse (10/1000µs): 19.4A; Power Line Protection: No; Power - Peak Pulse: 200W; Type: Zener; Unidirectional Channels: 1; Voltage - Breakdown (Min): 6.67V; Part Number: SMF6V0A-E3-08; Applications: General Purpose; ComponentLink1Description: Datasheet; ComponentLink1URL: http://www.vishay.com/docs/85881/smf5v0atosmf58a.pdf; ComponentLink2Description: DigiKey Link; ComponentLink2URL: http://digikey.com/product-detail/en/vishay-semiconductor-diodes-division/SMF6V0A-E3-08/SMF6V0A-E3-08CT-ND/3305300; LastUpdated: 9/2/2020 1:27:46 AM; Lifecycle Status: Active; Minimum Order: 1; Mounting Type: Surface Mount; Operating Temperature: -65°C ~ 175°C (TJ); Package / Case: DO-219AB; Packaging: TapeAndReel; PartId: 5542; Part Status: Active; Price: 0.10; Series: -; Supplier 1: DigiKey; Supplier Part Number 1: SMF6V0A-E3-08CT-ND; Supplier Device Package: SMF; Voltage - Clamping (Max) @ Ipp: 10.3V; Voltage - Reverse Standoff (Typ): 6V
footprint SMF DO-219AB
pins: 1, 2

## SMF6V0A-M3-08
designator D?
TVS DIODE 6V 10.3V DO219AB; Manufacturer: Vishay Semiconductor Diodes Division; Capacitance @ Frequency: 1063pF @ 1MHz; Current - Peak Pulse (10/1000µs): 19.4A; Power Line Protection: No; Power - Peak Pulse: 200W; Type: Zener; Unidirectional Channels: 1; Voltage - Breakdown (Min): 6.67V; Part Number: SMF6V0A-M3-08; Applications: General Purpose; ComponentLink1Description: Datasheet; ComponentLink1URL: http://www.vishay.com/docs/85881/smf5v0atosmf58a.pdf; ComponentLink2Description: DigiKey Link; ComponentLink2URL: http://digikey.com/product-detail/en/vishay-semiconductor-diodes-division/SMF6V0A-M3-08/SMF6V0A-M3-08GICT-ND/8565233; LastUpdated: 9/2/2020 1:27:45 AM; Lifecycle Status: Active; Minimum Order: 1; Mounting Type: Surface Mount; Operating Temperature: -65°C ~ 175°C (TJ); Package / Case: DO-219AB; Packaging: TapeAndReel; PartId: 5523; Part Status: Active; Price: 0.10; Series: -; Supplier 1: DigiKey; Supplier Part Number 1: SMF6V0A-M3-08GICT-ND; Supplier Device Package: SMF (DO-219AB); Voltage - Clamping (Max) @ Ipp: 10.3V; Voltage - Reverse Standoff (Typ): 6V
footprint SMF DO-219AB
pins: 1, 2

## SMF6V0TFTR
designator D?
SMF6V0TF IS A TRANSIENT VOLTAGE; Manufacturer: Rohm Semiconductor; Current - Peak Pulse (10/1000µs): 19.4A; Power Line Protection: No; Power - Peak Pulse: 200W; Type: Zener; Unidirectional Channels: 1; Voltage - Breakdown (Min): 6.67V; Voltage - Clamping (Max) @ Ipp: 10.3V; Voltage - Reverse Standoff (Typ): 6V; Part Number: SMF6V0TFTR; Applications: Automotive; ComponentLink1Description: Datasheet; ComponentLink1URL: https://www.rohm.com/datasheet/SMF6V0TF/smf6v0tftr-e; ComponentLink2Description: DigiKey Link; ComponentLink2URL: http://digikey.com/product-detail/en/rohm-semiconductor/SMF6V0TFTR/SMF6V0TFCT-ND/9748294; LastUpdated: 9/2/2020 1:28:36 AM; Lifecycle Status: Active; Minimum Order: 1; Mounting Type: Surface Mount; Operating Temperature: 150°C (TJ); Package / Case: SOD-123F; Packaging: TapeAndReel; PartId: 10123; Part Status: Active; Price: 0.11; Series: Automotive, AEC-Q101; Supplier 1: DigiKey; Supplier Part Number 1: SMF6V0TFCT-ND; Supplier Device Package: PMDU
footprint SOD123F
pins: 1, 2

## SMF6V0TR
designator D?
TRANSIENT VOLTAGE SUPPRESSOR - S; Manufacturer: Rohm Semiconductor; Current - Peak Pulse (10/1000µs): 19.4A; Power Line Protection: No; Power - Peak Pulse: 200W; Type: Zener; Unidirectional Channels: 1; Voltage - Breakdown (Min): 6.67V; Voltage - Clamping (Max) @ Ipp: 10.3V; Voltage - Reverse Standoff (Typ): 6V (Max); Part Number: SMF6V0TR; Applications: General Purpose; ComponentLink1Description: Datasheet; ComponentLink1URL: https://www.rohm.com/datasheet/SMF8V0/smf8v0tr-e; ComponentLink2Description: DigiKey Link; ComponentLink2URL: http://digikey.com/product-detail/en/rohm-semiconductor/SMF6V0TR/846-SMF6V0CT-ND/10709693; LastUpdated: 9/2/2020 1:28:36 AM; Lifecycle Status: Active; Minimum Order: 1; Mounting Type: Surface Mount; Operating Temperature: 150°C (TJ); Package / Case: SOD-123F; Packaging: Unknown; PartId: 10046; Part Status: Active; Price: 0.06; Series: -; Supplier 1: DigiKey; Supplier Part Number 1: 846-SMF6V0CT-ND; Supplier Device Package: PMDU
footprint SOD123F
pins: 1, 2

## SMF6V5A-E3-08
designator D?
TVS DIODE 6.5V 11.2V SMF; Manufacturer: Vishay Semiconductor Diodes Division; Capacitance @ Frequency: 938pF @ 1MHz; Current - Peak Pulse (10/1000µs): 17.9A; Power Line Protection: No; Power - Peak Pulse: 200W; Type: Zener; Unidirectional Channels: 1; Voltage - Breakdown (Min): 7.22V; Part Number: SMF6V5A-E3-08; Applications: General Purpose; ComponentLink1Description: Datasheet; ComponentLink1URL: http://www.vishay.com/docs/85881/smf5v0atosmf58a.pdf; ComponentLink2Description: DigiKey Link; ComponentLink2URL: http://digikey.com/product-detail/en/vishay-semiconductor-diodes-division/SMF6V5A-E3-08/SMF6V5A-E3-08CT-ND/1680638; LastUpdated: 9/2/2020 1:27:45 AM; Lifecycle Status: Active; Minimum Order: 1; Mounting Type: Surface Mount; Operating Temperature: -65°C ~ 175°C (TJ); Package / Case: DO-219AB; Packaging: TapeAndReel; PartId: 5513; Part Status: Active; Price: 0.08; Series: -; Supplier 1: DigiKey; Supplier Part Number 1: SMF6V5A-E3-08CT-ND; Supplier Device Package: SMF; Voltage - Clamping (Max) @ Ipp: 11.2V; Voltage - Reverse Standoff (Typ): 6.5V
footprint SMF DO-219AB
pins: 1, 2

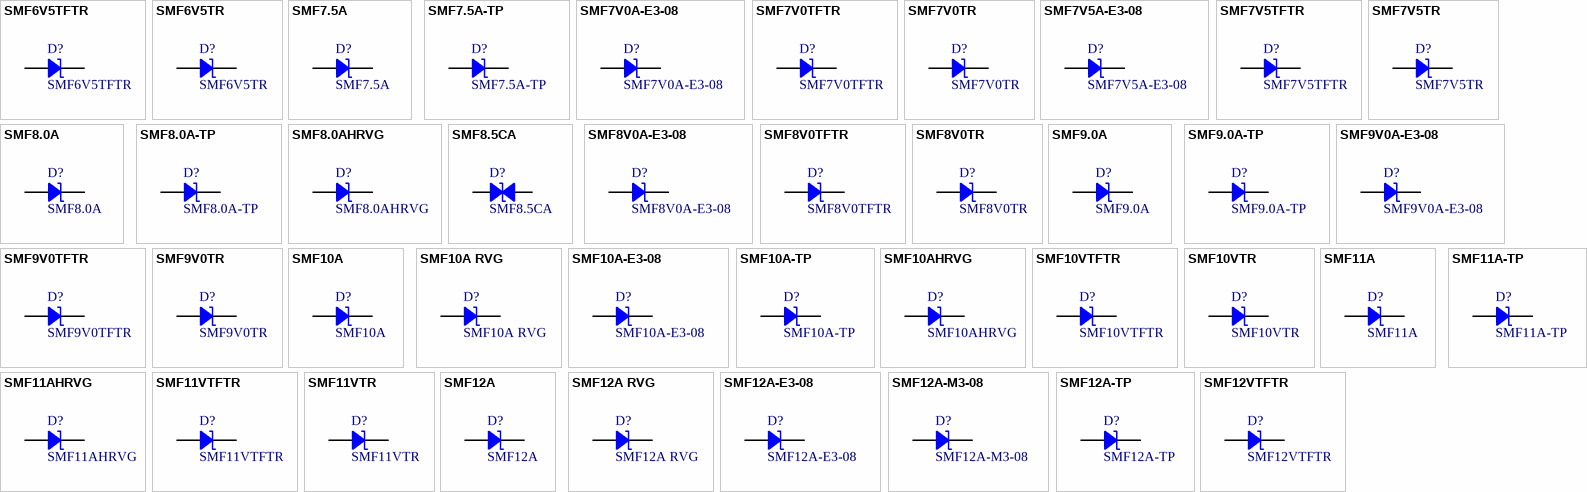
[diagram p113: symbols SMF6V5TFTR to SMF12VTFTR]

## SMF6V5TFTR
designator D?
SMF6V5TF IS A TRANSIENT VOLTAGE; Manufacturer: Rohm Semiconductor; Current - Peak Pulse (10/1000µs): 17.9A; Power Line Protection: No; Power - Peak Pulse: 200W; Type: Zener; Unidirectional Channels: 1; Voltage - Breakdown (Min): 7.22V; Voltage - Clamping (Max) @ Ipp: 11.2V; Voltage - Reverse Standoff (Typ): 6.5V; Part Number: SMF6V5TFTR; Applications: Automotive; ComponentLink1Description: Datasheet; ComponentLink1URL: https://www.rohm.com/datasheet/SMF6V5TF/smf6v5tftr-e; ComponentLink2Description: DigiKey Link; ComponentLink2URL: http://digikey.com/product-detail/en/rohm-semiconductor/SMF6V5TFTR/SMF6V5TFCT-ND/9748295; LastUpdated: 9/2/2020 1:28:36 AM; Lifecycle Status: Active; Minimum Order: 1; Mounting Type: Surface Mount; Operating Temperature: 150°C (TJ); Package / Case: SOD-123F; Packaging: TapeAndReel; PartId: 10139; Part Status: Active; Price: 0.11; Series: Automotive, AEC-Q101; Supplier 1: DigiKey; Supplier Part Number 1: SMF6V5TFCT-ND; Supplier Device Package: PMDU
footprint SOD123F
pins: 1, 2

## SMF6V5TR
designator D?
TRANSIENT VOLTAGE SUPPRESSOR - S; Manufacturer: Rohm Semiconductor; Current - Peak Pulse (10/1000µs): 17.9A; Power Line Protection: No; Power - Peak Pulse: 200W; Type: Zener; Unidirectional Channels: 1; Voltage - Breakdown (Min): 7.22V; Voltage - Clamping (Max) @ Ipp: 11.2V; Voltage - Reverse Standoff (Typ): 6.5V (Max); Part Number: SMF6V5TR; Applications: General Purpose; ComponentLink1Description: Datasheet; ComponentLink1URL: https://www.rohm.com/datasheet/SMF9V0/smf9v0tr-e; ComponentLink2Description: DigiKey Link; ComponentLink2URL: http://digikey.com/product-detail/en/rohm-semiconductor/SMF6V5TR/846-SMF6V5CT-ND/10709575; LastUpdated: 9/2/2020 1:28:36 AM; Lifecycle Status: Active; Minimum Order: 1; Mounting Type: Surface Mount; Operating Temperature: 150°C (TJ); Package / Case: SOD-123F; Packaging: Unknown; PartId: 10053; Part Status: Active; Price: 0.06; Series: -; Supplier 1: DigiKey; Supplier Part Number 1: 846-SMF6V5CT-ND; Supplier Device Package: PMDU
footprint SOD123F
pins: 1, 2

## SMF7.5A
designator D?
TVS DIODE 7.5V 12.9V SOD123F; Manufacturer: Littelfuse Inc.; Current - Peak Pulse (10/1000µs): 15.5A; Power Line Protection: No; Power - Peak Pulse: 200W; Type: Zener; Unidirectional Channels: 1; Voltage - Breakdown (Min): 8.33V; Part Number: SMF7.5A; Applications: General Purpose; ComponentLink1Description: Datasheet; ComponentLink1URL: https://www.littelfuse.com/~/media/electronics/datasheets/tvs_diodes/littelfuse_tvs_diode_smf_datasheet.pdf.pdf; ComponentLink2Description: DigiKey Link; ComponentLink2URL: http://digikey.com/product-detail/en/littelfuse-inc/SMF7.5A/F5752CT-ND/3543184; LastUpdated: 9/2/2020 1:28:36 AM; Lifecycle Status: Active; Minimum Order: 1; Mounting Type: Surface Mount; Operating Temperature: -55°C ~ 150°C (TJ); Package / Case: SOD-123F; Packaging: TapeAndReel; PartId: 10082; Part Status: Active; Price: 0.09; Series: SMF; Supplier 1: DigiKey; Supplier Part Number 1: F5752CT-ND; Supplier Device Package: SOD-123F; Voltage - Clamping (Max) @ Ipp: 12.9V; Voltage - Reverse Standoff (Typ): 7.5V
footprint SOD123F
pins: 1, 2

## SMF7.5A-TP
designator D?
TVS DIODE 7.5V 12.9V SOD123FL; Manufacturer: Micro Commercial Co; Current - Peak Pulse (10/1000µs): 15.5A; Power Line Protection: No; Power - Peak Pulse: 200W; Type: Zener; Unidirectional Channels: 1; Voltage - Breakdown (Min): 8.33V; Part Number: SMF7.5A-TP; Applications: General Purpose; ComponentLink1Description: Datasheet; ComponentLink1URL: https://www.mccsemi.com/pdf/Products/SMF5.0-170(SOD-123FL)-V2.pdf; ComponentLink2Description: DigiKey Link; ComponentLink2URL: http://digikey.com/product-detail/en/micro-commercial-co/SMF7.5A-TP/SMF7.5A-TPMSCT-ND/5114031; LastUpdated: 9/2/2020 1:28:36 AM; Lifecycle Status: Active; Minimum Order: 1; Mounting Type: Surface Mount; Operating Temperature: -65°C ~ 175°C (TA); Package / Case: SOD-123F; Packaging: TapeAndReel; PartId: 10106; Part Status: Active; Price: 0.09; Series: -; Supplier 1: DigiKey; Supplier Part Number 1: SMF7.5A-TPMSCT-ND; Supplier Device Package: SOD-123FL; Voltage - Clamping (Max) @ Ipp: 12.9V; Voltage - Reverse Standoff (Typ): 7.5V
footprint SOD123F
pins: 1, 2

## SMF7V0A-E3-08
designator D?
TVS DIODE 7V 12V DO219AB; Manufacturer: Vishay Semiconductor Diodes Division; Capacitance @ Frequency: 843pF @ 1MHz; Current - Peak Pulse (10/1000µs): 16.7A; Power Line Protection: No; Power - Peak Pulse: 200W; Type: Zener; Unidirectional Channels: 1; Voltage - Breakdown (Min): 7.78V; Part Number: SMF7V0A-E3-08; Applications: General Purpose; ComponentLink1Description: Datasheet; ComponentLink1URL: http://www.vishay.com/docs/85881/smf5v0atosmf58a.pdf; ComponentLink2Description: DigiKey Link; ComponentLink2URL: http://digikey.com/product-detail/en/vishay-semiconductor-diodes-division/SMF7V0A-E3-08/SMF7V0A-E3-08GICT-ND/5639186; LastUpdated: 9/2/2020 1:27:45 AM; Lifecycle Status: Active; Minimum Order: 1; Mounting Type: Surface Mount; Operating Temperature: -65°C ~ 175°C (TJ); Package / Case: DO-219AB; Packaging: TapeAndReel; PartId: 5500; Part Status: Active; Price: 0.10; Series: -; Supplier 1: DigiKey; Supplier Part Number 1: SMF7V0A-E3-08GICT-ND; Supplier Device Package: SMF; Voltage - Clamping (Max) @ Ipp: 12V; Voltage - Reverse Standoff (Typ): 7V
footprint SMF DO-219AB
pins: 1, 2

## SMF7V0TFTR
designator D?
SMF7V0TF IS A TRANSIENT VOLTAGE; Manufacturer: Rohm Semiconductor; Current - Peak Pulse (10/1000µs): 16.7A; Power Line Protection: No; Power - Peak Pulse: 200W; Type: Zener; Unidirectional Channels: 1; Voltage - Breakdown (Min): 7.78V; Voltage - Clamping (Max) @ Ipp: 12V; Voltage - Reverse Standoff (Typ): 7V; Part Number: SMF7V0TFTR; Applications: Automotive; ComponentLink1Description: Datasheet; ComponentLink1URL: https://www.rohm.com/datasheet/SMF7V0TF/smf7v0tftr-e; ComponentLink2Description: DigiKey Link; ComponentLink2URL: http://digikey.com/product-detail/en/rohm-semiconductor/SMF7V0TFTR/SMF7V0TFCT-ND/9748296; LastUpdated: 9/2/2020 1:28:36 AM; Lifecycle Status: Active; Minimum Order: 1; Mounting Type: Surface Mount; Operating Temperature: 150°C (TJ); Package / Case: SOD-123F; Packaging: TapeAndReel; PartId: 10122; Part Status: Active; Price: 0.11; Series: Automotive, AEC-Q101; Supplier 1: DigiKey; Supplier Part Number 1: SMF7V0TFCT-ND; Supplier Device Package: PMDU
footprint SOD123F
pins: 1, 2

## SMF7V0TR
designator D?
TRANSIENT VOLTAGE SUPPRESSOR - S; Manufacturer: Rohm Semiconductor; Current - Peak Pulse (10/1000µs): 16.7A; Power Line Protection: No; Power - Peak Pulse: 200W; Type: Zener; Unidirectional Channels: 1; Voltage - Breakdown (Min): 7.78V; Voltage - Clamping (Max) @ Ipp: 12V; Voltage - Reverse Standoff (Typ): 7V (Max); Part Number: SMF7V0TR; Applications: General Purpose; ComponentLink1Description: Datasheet; ComponentLink1URL: https://www.rohm.com/datasheet/STZ5.6NFH/stz5.6nfh; ComponentLink2Description: DigiKey Link; ComponentLink2URL: http://digikey.com/product-detail/en/rohm-semiconductor/SMF7V0TR/846-SMF7V0CT-ND/10709652; LastUpdated: 9/2/2020 1:28:36 AM; Lifecycle Status: Active; Minimum Order: 1; Mounting Type: Surface Mount; Operating Temperature: 150°C (TJ); Package / Case: SOD-123F; Packaging: Unknown; PartId: 10050; Part Status: Active; Price: 0.06; Series: -; Supplier 1: DigiKey; Supplier Part Number 1: 846-SMF7V0CT-ND; Supplier Device Package: PMDU
footprint SOD123F
pins: 1, 2